# Altium schematic symbol library Schlib1.SchLib: 27 symbols
Pins are listed as number, name and electrical type; pins without a type are passive.

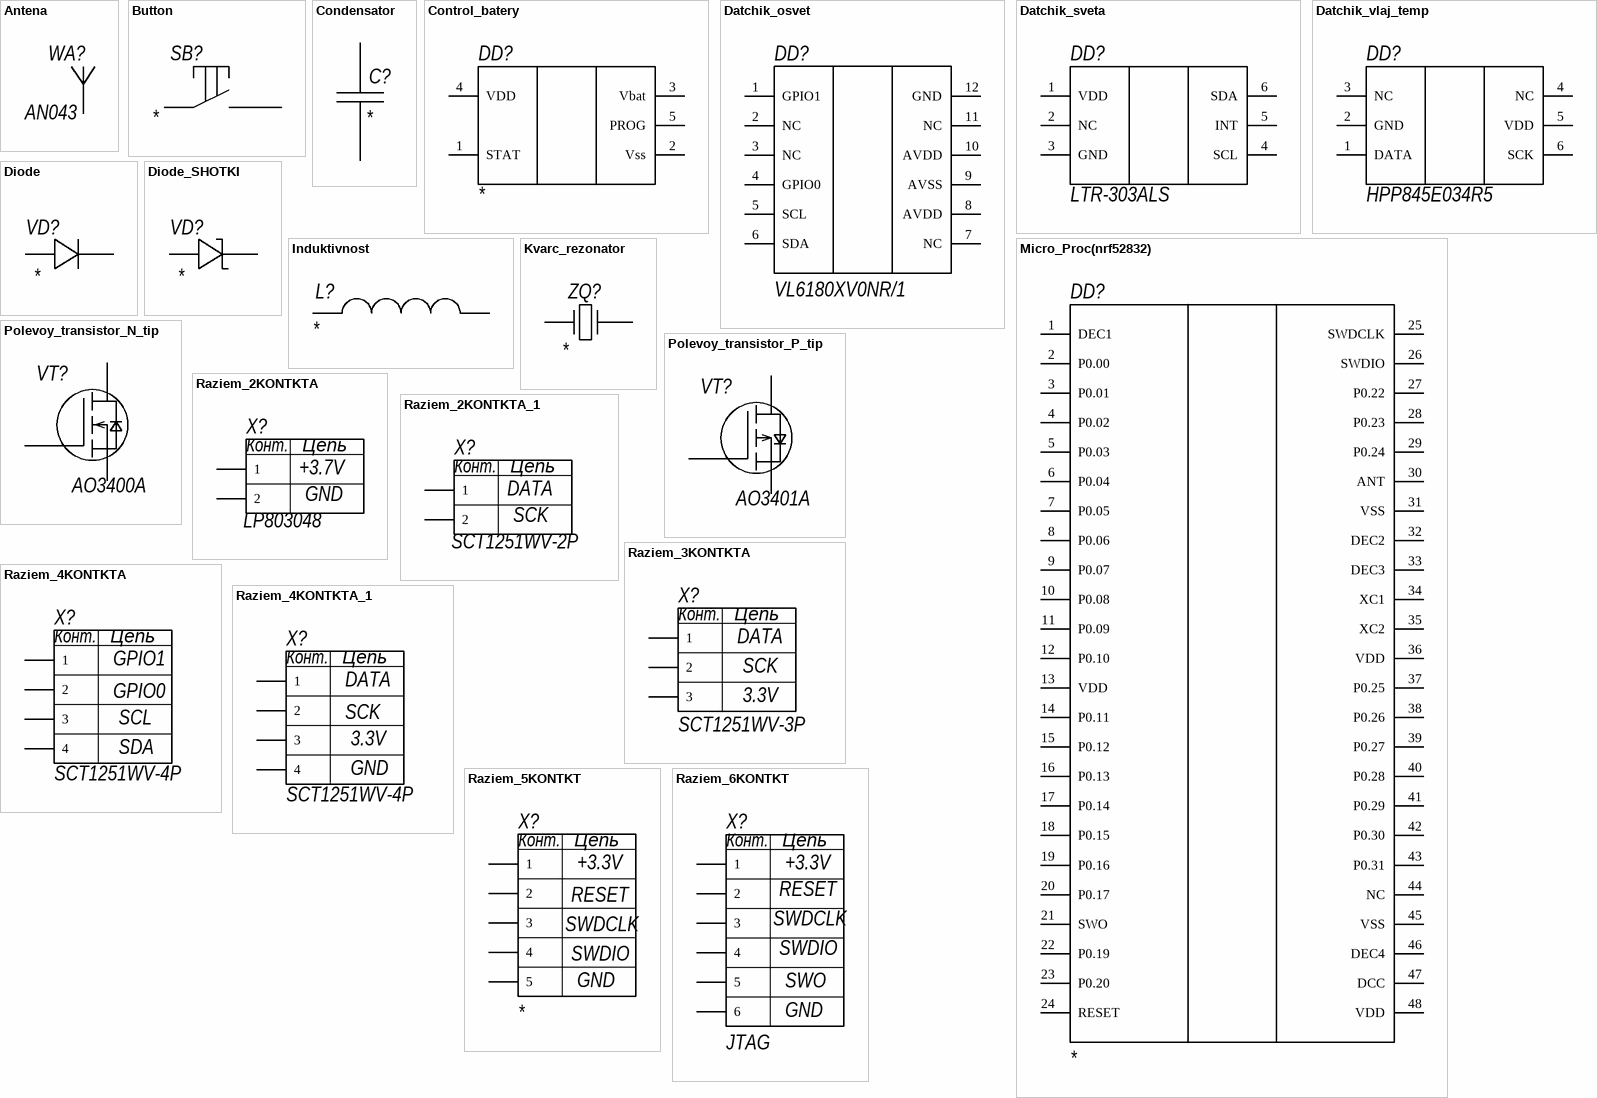
[diagram p0: symbols Antena to Raziem_6KONTKT]

## Antena
designator WA?, comment AN043
footprint BLE_50_Ohm_2400 MHz
pins: 1

## Button
designator SB?
Name: *
footprint Button
pins: 1, 2

## Condensator
designator C?
Value: *
footprint CAP_0805
pins: 1, 2

## Control_batery
designator DD?
Name: *
footprint SOT-23-5
pins: 1 STAT, 2 Vss, 3 Vbat, 4 VDD, 5 PROG

## Datchik_osvet
designator DD?, comment VL6180XV0NR/1
Name: VL6180XV0NR/1
footprint SOP12
pins: 1 GPIO1, 2 NC, 3 NC, 4 GPIO0, 5 SCL, 6 SDA, 7 NC, 8 AVDD, 9 AVSS, 10 AVDD, 11 NC, 12 GND

## Datchik_sveta
designator DD?, comment LTR-303ALS
Name: LTR-303ALS
footprint LTR-303ALS-01
pins: 1 VDD, 2 NC, 3 GND, 4 SCL, 5 INT, 6 SDA

## Datchik_vlaj_temp
designator DD?, comment HPP845E034R5
Name: HPP845E034R5
footprint HTU20D(F)
pins: 1 DATA, 2 GND, 3 NC, 4 NC, 5 VDD, 6 SCK

## Diode
designator VD?
Name: *
pins: A, K

## Diode_SHOTKI
designator VD?
Name: *
footprint SMB(DIODE)
pins: A, K

## Induktivnost
designator L?
Value: *
footprint INDICT_0603
footprint INDICT_0402
pins: 1, 2

## Kvarc_rezonator
designator ZQ?
Name: *
footprint QUARTZ(32)
footprint QUARTZ(32.768)
pins: 1, 2

## Micro_Proc(nrf52832)
designator DD?
Name: *
footprint QFN48_6X6
pins: 1 DEC1, 2 P0.00, 3 P0.01, 4 P0.02, 5 P0.03, 6 P0.04, 7 P0.05, 8 P0.06, 9 P0.07, 10 P0.08, 11 P0.09, 12 P0.10, 13 VDD, 14 P0.11, 15 P0.12, 16 P0.13, 17 P0.14, 18 P0.15, 19 P0.16, 20 P0.17, 21 SWO, 22 P0.19, 23 P0.20, 24 RESET, 25 SWDCLK, 26 SWDIO, 27 P0.22, 28 P0.23, 29 P0.24, 30 ANT, 31 VSS, 32 DEC2, 33 DEC3, 34 XC1, 35 XC2, 36 VDD, 37 P0.25, 38 P0.26, 39 P0.27, 40 P0.28, 41 P0.29, 42 P0.30, 43 P0.31, 44 NC, 45 VSS, 46 DEC4, 47 DCC, 48 VDD

## Polevoy_transistor_N_tip
designator VT?, comment AO3400A
Name: AO3400A
footprint SOT-23-3
pins: DRAIN, GATE, SOURCE

## Polevoy_transistor_P_tip
designator VT?, comment AO3401A
Name: AO3401A
footprint SOT-23-3
pins: DRAIN, GATE, SOURCE

## Raziem_2KONTKTA
designator X?, comment LP803048
Name: LP803048
footprint Raziem2_3mm
pins: 1, 2
text: Конт.; Цепь; +3.7V; GND

## Raziem_2KONTKTA_1
designator X?, comment SCT1251WV-2P
Name: SCT1251WV-2P
footprint Raziem2(1)_1.25mm
pins: 1, 2
text: Конт.; Цепь; DATA; SCK

## Raziem_3KONTKTA
designator X?, comment SCT1251WV-3P
Name: SCT1251WV-3P
footprint Raziem3(1)_1.25mm
pins: 1, 2, 3
text: Конт.; Цепь; DATA; SCK; 3.3V

## Raziem_4KONTKTA
designator X?, comment SCT1251WV-4P
Name: SCT1251WV-4P
footprint Raziem4(1)_1.25mm
pins: 1, 2, 3, 4
text: Конт.; Цепь; GPIO1; GPIO0; SCL; SDA

## Raziem_4KONTKTA_1
designator X?, comment SCT1251WV-4P
Name: SCT1251WV-4P
footprint Raziem4(1)_1.25mm
pins: 1, 2, 3, 4
text: Конт.; Цепь; DATA; SCK; 3.3V; GND

## Raziem_5KONTKT
designator X?
Name: *
pins: 1, 2, 3, 4, 5
text: Конт.; Цепь; +3.3V; RESET; SWDCLK; SWDIO; GND

## Raziem_6KONTKT
designator X?, comment JTAG
Name: JTAG
footprint RAZIEM_6_2.54mm
pins: 1, 2, 3, 4, 5, 6
text: Конт.; Цепь; +3.3V; RESET; SWDCLK; SWDIO; SWO; GND

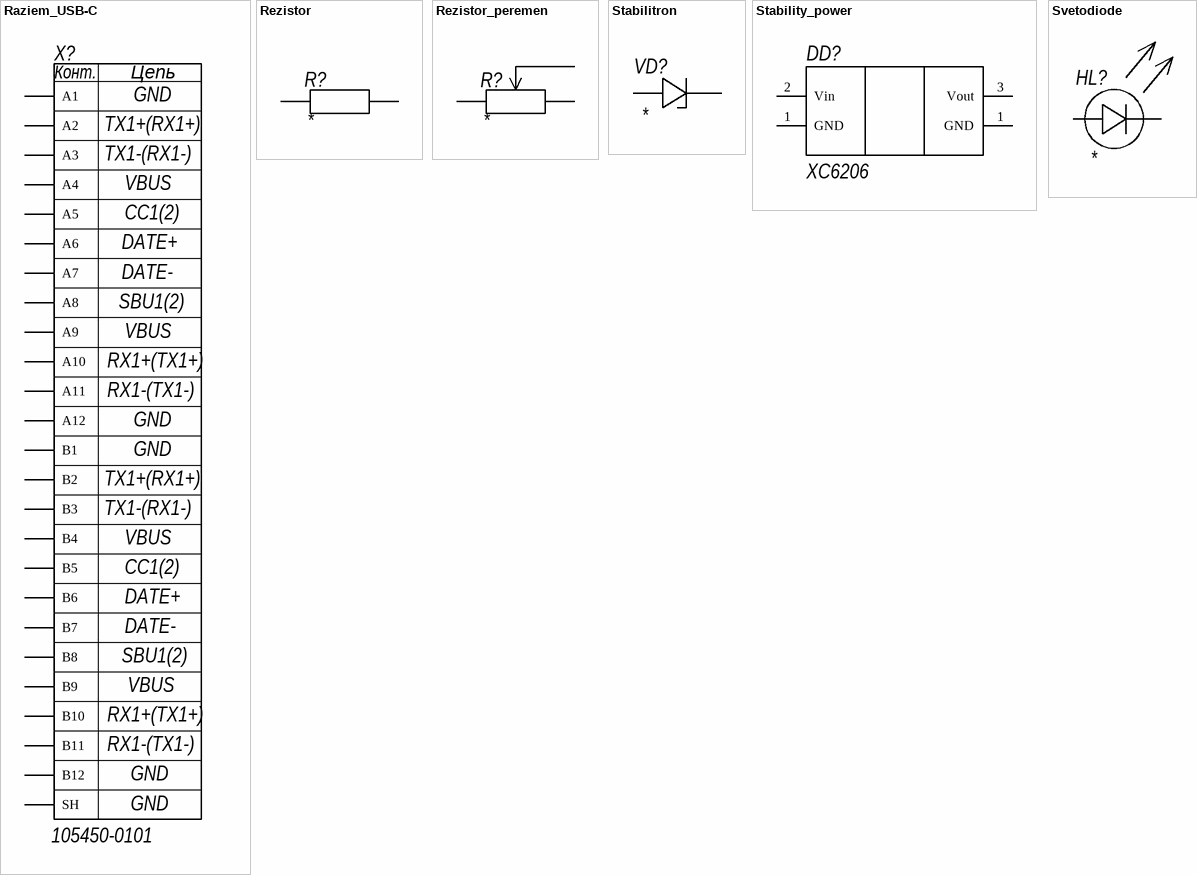
[diagram p1: symbols Raziem_USB-C to Svetodiode]

## Raziem_USB-C
designator X?, comment 105450-0101
Name: 105450-0101
footprint USB-C
pins: A1, A2, A3, A4, A5, A6, A7, A8, A9, A10, A11, A12, B1, B2, B3, B4, B5, B6, B7, B8, B9, B10, B11, B12, SH
text: Конт.; Цепь; GND; TX1+(RX1+); TX1-(RX1-); VBUS; CC1(2); DATE+; DATE-; SBU1(2); RX1+(TX1+); RX1-(TX1-)

## Rezistor
designator R?
Value: *
footprint RES_0603
pins: 1, 2

## Rezistor_peremen
designator R?
Value: *
pins: 1, 2, 3

## Stabilitron
designator VD?
Name: *
footprint SOD-323F
pins: A, K

## Stability_power
designator DD?, comment XC6206
Name: XC6206
footprint SOT-89
footprint SOT-23-3_STAB_POWER
pins: 1 GND, 1 GND, 2 Vin, 3 Vout

## Svetodiode
designator HL?
Color: *
footprint LED
footprint LED_0603
pins: A, K